# EAGLE library part POT-2X (library pedal-library)
2 Gang Potentiometer
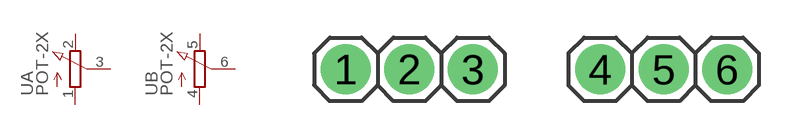
[diagram p0: symbol with the pads of 1X06; footprint 1X06]

Designator prefix -; gates A=POT_EU- B=POT_EU-

## POT-2X  [1X06]
1  A:A  pas
2  A:E  pas
3  A:S  pas
4  B:A  pas
5  B:E  pas
6  B:S  pas

## Footprint 1X06 (pad centres in mm)
PIN HEADER
drill 1.016 pad 2: 1 0,0; 2 2.54,0; 3 5.08,0; 4 10.16,0; 5 12.7,0; 6 15.24,0